# Altium footprint library MLACHA_B.PCBLIB: 37 footprints (part 2 of 3)
Each footprint in its own frame and in the unit in brackets; x right, y up, seen from the top. Pads: shape width x height; smd on the part's side, far side on the other; paste and mask are expansions set on the pad; w line width, h text height; cw(c..) or ccw(c..) is an arc to the next point about the centre after c.
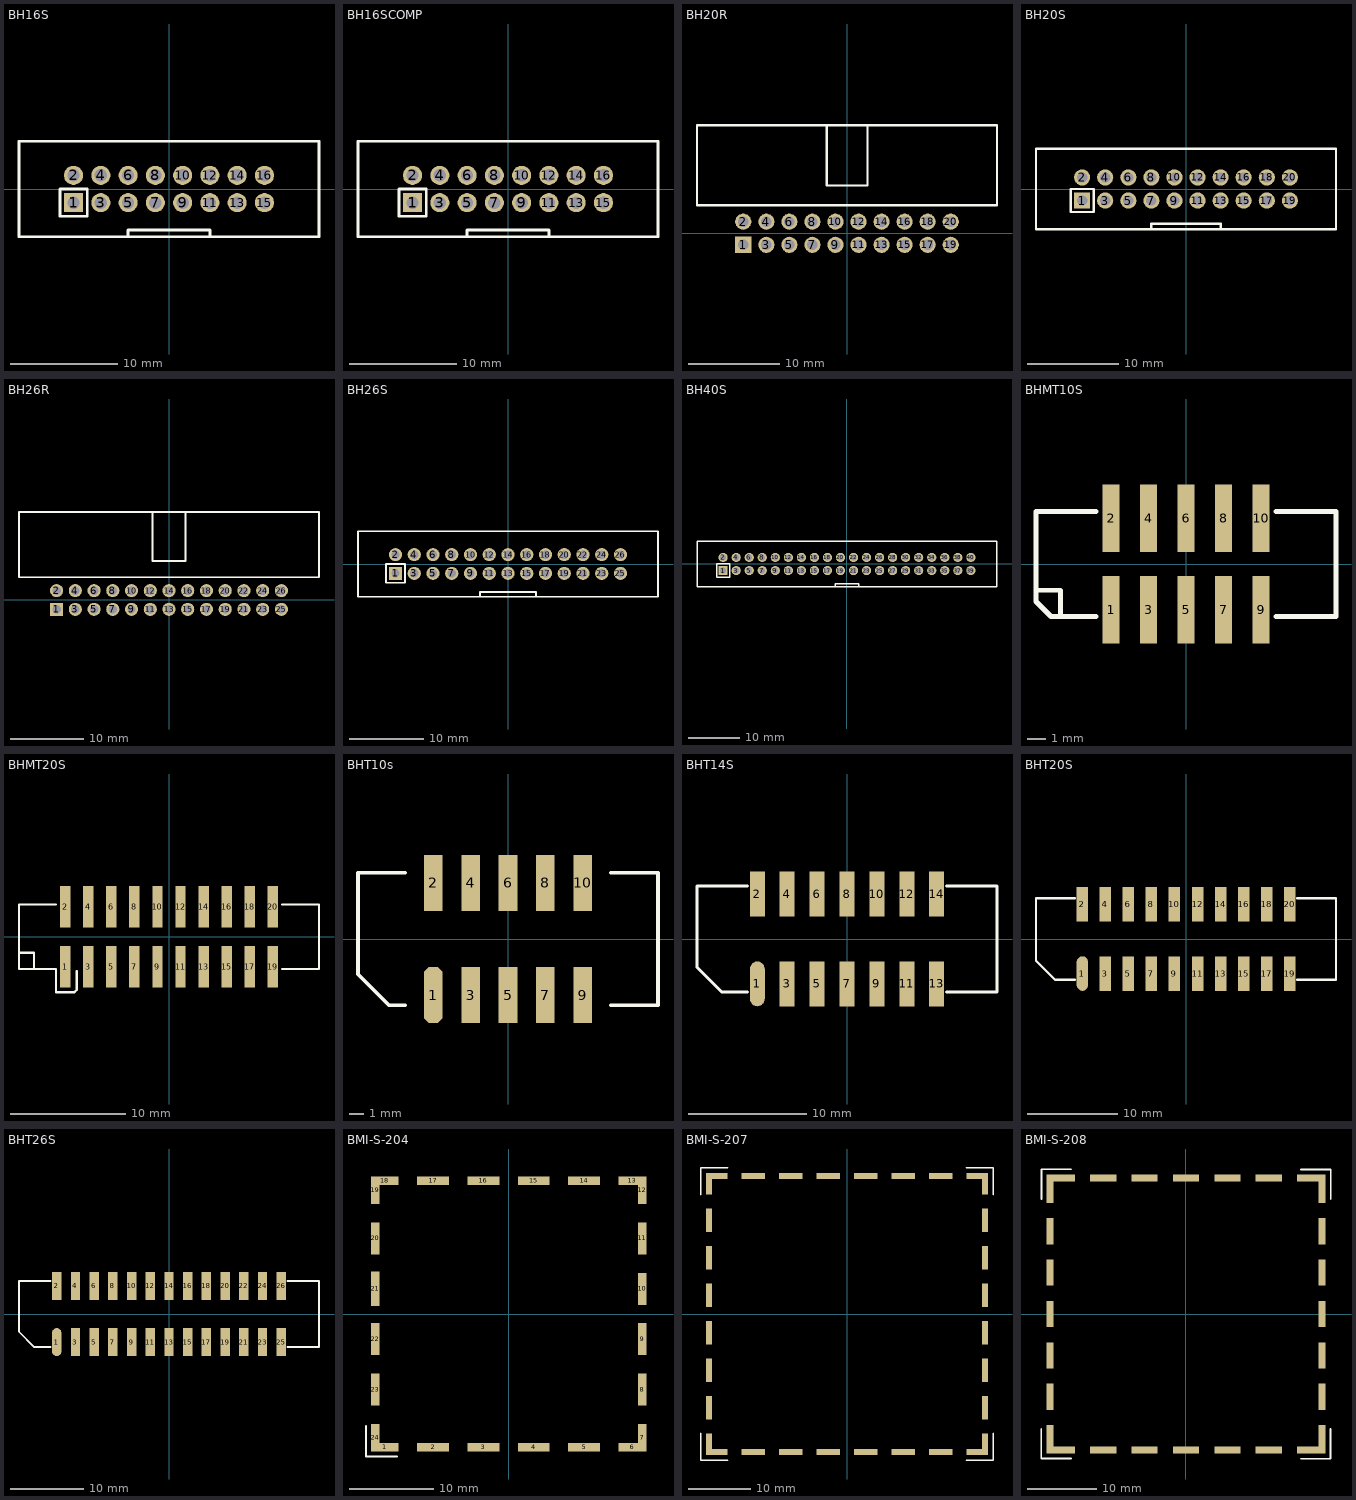
[diagram p1: the footprints below, top view; thin cyan lines are the x and y axes]

## BH16S [mil]
height 362.2
pads (16):
  rect 70x70 hole 45: 1(-350,-50)
  round 70 hole 45: 2(-350,50) 3(-250,-50) 4(-250,50) 5(-150,-50) 6(-150,50) 7(-50,-50) 8(-50,50) 9(50,-50) 10(50,50) 11(150,-50) 12(150,50) 13(250,-50) 14(250,50) 15(350,-50) 16(350,50)
TopOverlay:
  lines w10: -150,-175 -150,-150 150,-150 150,-175 ; -550,-175 -550,175 550,175 550,-175 -550,-175 ; -400,-100 -300,-100 -300,0 -400,0 -400,-100
3D body: height 39.37, standoff 0, extent -549.61,-177.17 551.18,177.17
3D body: height 358.27, standoff 0, extent -549.61,-177.17 551.18,177.17
3D body: height 98.43, standoff 0, extent -90.55,-173.23 90.55,-125.98
3D body: height 326.77, standoff -118.11, extent -361.81,-61.81 -338.19,-38.19
3D body: height 326.77, standoff -118.11, extent -261.81,-61.81 -238.19,-38.19
3D body: height 326.77, standoff -118.11, extent -161.81,-61.81 -138.19,-38.19
3D body: height 326.77, standoff -118.11, extent -361.81,38.19 -338.19,61.81
3D body: height 326.77, standoff -118.11, extent -261.81,38.19 -238.19,61.81
3D body: height 326.77, standoff -118.11, extent -161.81,38.19 -138.19,61.81
3D body: height 326.77, standoff -118.11, extent -61.81,38.19 -38.19,61.81
3D body: height 326.77, standoff -118.11, extent -61.81,-61.81 -38.19,-38.19
3D body: height 326.77, standoff -118.11, extent 38.19,-61.81 61.81,-38.19
3D body: height 326.77, standoff -118.11, extent 38.19,38.19 61.81,61.81
3D body: height 326.77, standoff -118.11, extent 138.19,-61.81 161.81,-38.19
3D body: height 326.77, standoff -118.11, extent 138.19,38.19 161.81,61.81
3D body: height 326.77, standoff -118.11, extent 238.19,-61.81 261.81,-38.19
3D body: height 326.77, standoff -118.11, extent 238.19,38.19 261.81,61.81
3D body: height 326.77, standoff -118.11, extent 338.19,-61.81 361.81,-38.19
3D body: height 326.77, standoff -118.11, extent 338.19,38.19 361.81,61.81

## BH16SCOMP [mil]
height 362.2
pads (16):
  rect 70x70 hole 45: 1(-350,-50)
  round 70 hole 45: 2(-350,50) 3(-250,-50) 4(-250,50) 5(-150,-50) 6(-150,50) 7(-50,-50) 8(-50,50) 9(50,-50) 10(50,50) 11(150,-50) 12(150,50) 13(250,-50) 14(250,50) 15(350,-50) 16(350,50)
TopOverlay:
  lines w10: -150,-175 -150,-150 150,-150 150,-175 ; -550,-175 550,-175 550,175 -550,175 -550,-175 ; -400,-100 -400,0 -300,0 -300,-100 -400,-100
3D body: height 551.18, standoff 118.11, extent -492.13,-118.11 492.13,118.11
3D body: height 326.77, standoff -118.11, extent 338.19,38.19 361.81,61.81
3D body: height 326.77, standoff -118.11, extent 338.19,-61.81 361.81,-38.19
3D body: height 326.77, standoff -118.11, extent 238.19,38.19 261.81,61.81
3D body: height 326.77, standoff -118.11, extent 238.19,-61.81 261.81,-38.19
3D body: height 326.77, standoff -118.11, extent 138.19,38.19 161.81,61.81
3D body: height 326.77, standoff -118.11, extent 138.19,-61.81 161.81,-38.19
3D body: height 326.77, standoff -118.11, extent 38.19,38.19 61.81,61.81
3D body: height 326.77, standoff -118.11, extent 38.19,-61.81 61.81,-38.19
3D body: height 326.77, standoff -118.11, extent -61.81,-61.81 -38.19,-38.19
3D body: height 326.77, standoff -118.11, extent -61.81,38.19 -38.19,61.81
3D body: height 326.77, standoff -118.11, extent -161.81,38.19 -138.19,61.81
3D body: height 326.77, standoff -118.11, extent -261.81,38.19 -238.19,61.81
3D body: height 326.77, standoff -118.11, extent -361.81,38.19 -338.19,61.81
3D body: height 326.77, standoff -118.11, extent -161.81,-61.81 -138.19,-38.19
3D body: height 326.77, standoff -118.11, extent -261.81,-61.81 -238.19,-38.19
3D body: height 326.77, standoff -118.11, extent -361.81,-61.81 -338.19,-38.19
3D body: height 98.43, standoff 0, extent -90.55,-173.23 90.55,-125.98
3D body: height 358.27, standoff 0, extent -549.61,-177.17 551.18,177.17
3D body: height 39.37, standoff 0, extent -549.61,-177.17 551.18,177.17

## BH20R [mil]
height 362.2
pads (20):
  rect 70x70 hole 45: 1(-450,-50)
  round 70 hole 45: 2(-450,50) 3(-350,-50) 4(-350,50) 5(-250,-50) 6(-250,50) 7(-150,-50) 8(-150,50) 9(-50,-50) 10(-50,50) 11(50,-50) 12(50,50) 13(150,-50) 14(150,50) 15(250,-50) 16(250,50) 17(350,-50) 18(350,50) 19(450,-50) 20(450,50)
TopOverlay:
  lines w10: -88.19,468.9 -88.19,207.48 88.98,207.48 88.98,468.9 ; -650.59,120.91 -650.59,468.9 650.59,468.9 650.59,120.91 -650.59,120.91
3D body: height 149.61, standoff 124.41, extent 438.19,38.19 461.81,433.86
3D body: height 149.61, standoff -78.74, extent 438.19,38.19 461.81,61.81
3D body: height 249.61, standoff 224.41, extent 438.19,-61.81 461.81,433.86
3D body: height 249.61, standoff -78.74, extent 438.19,-61.81 461.81,-38.19
3D body: height 149.61, standoff 124.41, extent 338.19,38.19 361.81,433.86
3D body: height 149.61, standoff -78.74, extent 338.19,38.19 361.81,61.81
3D body: height 249.61, standoff 224.41, extent 338.19,-61.81 361.81,433.86
3D body: height 249.61, standoff -78.74, extent 338.19,-61.81 361.81,-38.19
3D body: height 149.61, standoff 124.41, extent 238.19,38.19 261.81,433.86
3D body: height 149.61, standoff -78.74, extent 238.19,38.19 261.81,61.81
3D body: height 249.61, standoff 224.41, extent 238.19,-61.81 261.81,433.86
3D body: height 249.61, standoff -78.74, extent 238.19,-61.81 261.81,-38.19
3D body: height 249.61, standoff -78.74, extent 138.19,-61.81 161.81,-38.19
3D body: height 249.61, standoff 224.41, extent 138.19,-61.81 161.81,433.86
3D body: height 249.61, standoff -78.74, extent 38.19,-61.81 61.81,-38.19
3D body: height 249.61, standoff 224.41, extent 38.19,-61.81 61.81,433.86
3D body: height 249.61, standoff -78.74, extent -61.81,-61.81 -38.19,-38.19
3D body: height 249.61, standoff 224.41, extent -61.81,-61.81 -38.19,433.86
3D body: height 249.61, standoff -78.74, extent -161.81,-61.81 -138.19,-38.19
3D body: height 249.61, standoff 224.41, extent -161.81,-61.81 -138.19,433.86
3D body: height 249.61, standoff -78.74, extent -261.81,-61.81 -238.19,-38.19
3D body: height 249.61, standoff 224.41, extent -261.81,-61.81 -238.19,433.86
3D body: height 249.61, standoff -78.74, extent -361.81,-61.81 -338.19,-38.19
3D body: height 249.61, standoff 224.41, extent -361.81,-61.81 -338.19,433.86
3D body: height 249.61, standoff 224.41, extent -461.81,-61.81 -438.19,433.86
3D body: height 249.61, standoff -78.74, extent -461.81,-61.81 -438.19,-38.19
3D body: height 362.2, standoff 11.81, extent -650,120.91 650.59,179.96
3D body: height 362.2, standoff 11.81, extent 606.59,117.34 650.59,465.33
3D body: height 362.2, standoff 11.81, extent -650,120.91 -604.72,468.9
3D body: height 362.2, standoff 316.93, extent -650,120.91 650.59,468.9
3D body: height 57.09, standoff 11.81, extent -650,120.91 650.59,468.9
3D body: height 149.61, standoff 124.41, extent -161.81,38.19 -138.19,433.86
3D body: height 149.61, standoff -78.74, extent -161.81,38.19 -138.19,61.81
3D body: height 149.61, standoff -78.74, extent -61.81,38.19 -38.19,61.81
3D body: height 149.61, standoff 124.41, extent -61.81,38.19 -38.19,433.86
3D body: height 149.61, standoff -78.74, extent 38.19,38.19 61.81,61.81
3D body: height 149.61, standoff 124.41, extent 38.19,38.19 61.81,433.86
3D body: height 149.61, standoff -78.74, extent 138.19,38.19 161.81,61.81
3D body: height 149.61, standoff 124.41, extent 138.19,38.19 161.81,433.86
3D body: height 149.61, standoff -78.74, extent -261.81,38.19 -238.19,61.81
3D body: height 149.61, standoff 124.41, extent -261.81,38.19 -238.19,433.86
3D body: height 149.61, standoff -78.74, extent -361.81,38.19 -338.19,61.81
3D body: height 149.61, standoff 124.41, extent -361.81,38.19 -338.19,433.86
3D body: height 149.61, standoff -78.74, extent -461.81,38.19 -438.19,61.81
3D body: height 149.61, standoff 124.41, extent -461.81,38.19 -438.19,433.86

## BH20S [mil]
height 362.2
pads (20):
  rect 70x70 hole 45: 1(-450,-50)
  round 70 hole 45: 2(-450,50) 3(-350,-50) 4(-350,50) 5(-250,-50) 6(-250,50) 7(-150,-50) 8(-150,50) 9(-50,-50) 10(-50,50) 11(50,-50) 12(50,50) 13(150,-50) 14(150,50) 15(250,-50) 16(250,50) 17(350,-50) 18(350,50) 19(450,-50) 20(450,50)
TopOverlay:
  lines w10: -150,-175 -150,-150 150,-150 150,-175 ; -650,-175 -650,175 650,175 650,-175 -650,-175 ; -500,-100 -400,-100 -400,0 -500,0 -500,-100
3D body: height 326.77, standoff -118.11, extent 438.19,-61.81 461.81,-38.19
3D body: height 326.77, standoff -118.11, extent 438.19,38.19 461.81,61.81
3D body: height 326.77, standoff -118.11, extent 338.19,-61.81 361.81,-38.19
3D body: height 326.77, standoff -118.11, extent 338.19,38.19 361.81,61.81
3D body: height 326.77, standoff -118.11, extent 238.19,38.19 261.81,61.81
3D body: height 326.77, standoff -118.11, extent 238.19,-61.81 261.81,-38.19
3D body: height 326.77, standoff -118.11, extent 138.19,38.19 161.81,61.81
3D body: height 326.77, standoff -118.11, extent 138.19,-61.81 161.81,-38.19
3D body: height 326.77, standoff -118.11, extent 38.19,38.19 61.81,61.81
3D body: height 326.77, standoff -118.11, extent 38.19,-61.81 61.81,-38.19
3D body: height 326.77, standoff -118.11, extent -61.81,38.19 -38.19,61.81
3D body: height 326.77, standoff -118.11, extent -61.81,-61.81 -38.19,-38.19
3D body: height 326.77, standoff -118.11, extent -161.81,-61.81 -138.19,-38.19
3D body: height 326.77, standoff -118.11, extent -161.81,38.19 -138.19,61.81
3D body: height 326.77, standoff -118.11, extent -261.81,38.19 -238.19,61.81
3D body: height 326.77, standoff -118.11, extent -361.81,38.19 -338.19,61.81
3D body: height 326.77, standoff -118.11, extent -461.81,38.19 -438.19,61.81
3D body: height 326.77, standoff -118.11, extent -261.81,-61.81 -238.19,-38.19
3D body: height 326.77, standoff -118.11, extent -361.81,-61.81 -338.19,-38.19
3D body: height 326.77, standoff -118.11, extent -461.81,-61.81 -438.19,-38.19
3D body: height 98.43, standoff 0, extent -90.55,-177.17 90.55,-129.92
3D body: height 358.27, standoff 0, extent -649.61,-177.17 649.61,177.17
3D body: height 39.37, standoff 0, extent -649.61,-177.17 649.61,177.17

## BH26R [mil]
height 362.2
pads (26):
  rect 70x70 hole 45: 1(-600,-50)
  round 70 hole 45: 2(-600,50) 3(-500,-50) 4(-500,50) 5(-400,-50) 6(-400,50) 7(-300,-50) 8(-300,50) 9(-200,-50) 10(-200,50) 11(-100,-50) 12(-100,50) 13(0,-50) 14(0,50) 15(100,-50) 16(100,50) 17(200,-50) 18(200,50) 19(300,-50) 20(300,50) 21(400,-50) 22(400,50) 23(500,-50) 24(500,50) 25(600,-50) 26(600,50)
TopOverlay:
  lines w10: -88.58,468.9 -88.58,207.48 88.58,207.48 88.58,468.9 ; -800.59,120.91 800.59,120.91 800.59,468.9 -800.59,468.9 -800.59,120.91
3D body: height 149.61, standoff 124.41, extent -611.81,38.19 -588.19,433.86
3D body: height 149.61, standoff -78.74, extent -611.81,38.19 -588.19,61.81
3D body: height 149.61, standoff 124.41, extent -511.81,38.19 -488.19,433.86
3D body: height 149.61, standoff -78.74, extent -511.81,38.19 -488.19,61.81
3D body: height 149.61, standoff 124.41, extent -411.81,38.19 -388.19,433.86
3D body: height 149.61, standoff -78.74, extent -411.81,38.19 -388.19,61.81
3D body: height 149.61, standoff 124.41, extent -11.81,38.19 11.81,433.86
3D body: height 149.61, standoff -78.74, extent -11.81,38.19 11.81,61.81
3D body: height 149.61, standoff 124.41, extent -111.81,38.19 -88.19,433.86
3D body: height 149.61, standoff -78.74, extent -111.81,38.19 -88.19,61.81
3D body: height 149.61, standoff 124.41, extent -211.81,38.19 -188.19,433.86
3D body: height 149.61, standoff -78.74, extent -211.81,38.19 -188.19,61.81
3D body: height 149.61, standoff -78.74, extent -311.81,38.19 -288.19,61.81
3D body: height 149.61, standoff 124.41, extent -311.81,38.19 -288.19,433.86
3D body: height 57.09, standoff 11.81, extent -800,120.91 801.18,468.9
3D body: height 362.2, standoff 316.93, extent -800,120.91 800,468.9
3D body: height 362.2, standoff 11.81, extent -800,120.91 -754.72,468.9
3D body: height 362.2, standoff 11.81, extent 756.55,126 800.55,474
3D body: height 362.2, standoff 11.81, extent -800,120.91 800.55,179.96
3D body: height 249.61, standoff -78.74, extent -611.81,-61.81 -588.19,-38.19
3D body: height 249.61, standoff 224.41, extent -611.81,-61.81 -588.19,433.86
3D body: height 249.61, standoff 224.41, extent -511.81,-61.81 -488.19,433.86
3D body: height 249.61, standoff -78.74, extent -511.81,-61.81 -488.19,-38.19
3D body: height 249.61, standoff 224.41, extent -411.81,-61.81 -388.19,433.86
3D body: height 249.61, standoff -78.74, extent -411.81,-61.81 -388.19,-38.19
3D body: height 249.61, standoff 224.41, extent -311.81,-61.81 -288.19,433.86
3D body: height 249.61, standoff -78.74, extent -311.81,-61.81 -288.19,-38.19
3D body: height 249.61, standoff 224.41, extent -211.81,-61.81 -188.19,433.86
3D body: height 249.61, standoff -78.74, extent -211.81,-61.81 -188.19,-38.19
3D body: height 249.61, standoff 224.41, extent -111.81,-61.81 -88.19,433.86
3D body: height 249.61, standoff -78.74, extent -111.81,-61.81 -88.19,-38.19
3D body: height 249.61, standoff 224.41, extent -11.81,-61.81 11.81,433.86
3D body: height 249.61, standoff -78.74, extent -11.81,-61.81 11.81,-38.19
3D body: height 249.61, standoff -78.74, extent 88.19,-61.81 111.81,-38.19
3D body: height 249.61, standoff 224.41, extent 88.19,-61.81 111.81,433.86
3D body: height 149.61, standoff -78.74, extent 88.19,38.19 111.81,61.81
3D body: height 149.61, standoff 124.41, extent 88.19,38.19 111.81,433.86
3D body: height 249.61, standoff -78.74, extent 188.19,-61.81 211.81,-38.19
3D body: height 249.61, standoff 224.41, extent 188.19,-61.81 211.81,433.86
3D body: height 149.61, standoff -78.74, extent 188.19,38.19 211.81,61.81
3D body: height 149.61, standoff 124.41, extent 188.19,38.19 211.81,433.86
3D body: height 249.61, standoff -78.74, extent 288.19,-61.81 311.81,-38.19
3D body: height 249.61, standoff 224.41, extent 288.19,-61.81 311.81,433.86
3D body: height 149.61, standoff -78.74, extent 288.19,38.19 311.81,61.81
3D body: height 149.61, standoff 124.41, extent 288.19,38.19 311.81,433.86
3D body: height 249.61, standoff -78.74, extent 388.19,-61.81 411.81,-38.19
3D body: height 249.61, standoff 224.41, extent 388.19,-61.81 411.81,433.86
3D body: height 149.61, standoff -78.74, extent 388.19,38.19 411.81,61.81
3D body: height 149.61, standoff 124.41, extent 388.19,38.19 411.81,433.86
3D body: height 249.61, standoff -78.74, extent 488.19,-61.81 511.81,-38.19
3D body: height 249.61, standoff 224.41, extent 488.19,-61.81 511.81,433.86
3D body: height 149.61, standoff -78.74, extent 488.19,38.19 511.81,61.81
3D body: height 149.61, standoff 124.41, extent 488.19,38.19 511.81,433.86
3D body: height 249.61, standoff -78.74, extent 588.19,-61.81 611.81,-38.19
3D body: height 249.61, standoff 224.41, extent 588.19,-61.81 611.81,433.86
3D body: height 149.61, standoff -78.74, extent 588.19,38.19 611.81,61.81
3D body: height 149.61, standoff 124.41, extent 588.19,38.19 611.81,433.86

## BH26S [mil]
height 362.2
pads (26):
  rect 70x70 hole 45: 1(-600,-50)
  round 70 hole 45: 2(-600,50) 3(-500,-50) 4(-500,50) 5(-400,-50) 6(-400,50) 7(-300,-50) 8(-300,50) 9(-200,-50) 10(-200,50) 11(-100,-50) 12(-100,50) 13(0,-50) 14(0,50) 15(100,-50) 16(100,50) 17(200,-50) 18(200,50) 19(300,-50) 20(300,50) 21(400,-50) 22(400,50) 23(500,-50) 24(500,50) 25(600,-50) 26(600,50)
TopOverlay:
  lines w10: -150,-175 -150,-150 150,-150 150,-175 ; -800,-175 800,-175 800,175 -800,175 -800,-175 ; -650,-100 -650,0 -550,0 -550,-100 -650,-100
3D body: height 39.37, standoff 0, extent -799.61,-177.17 800,177.17
3D body: height 358.27, standoff 0, extent -799.61,-177.17 800,177.17
3D body: height 98.43, standoff 0, extent -240.55,-177.17 150,-129.92
3D body: height 326.77, standoff -118.11, extent -611.81,-61.81 -588.19,-38.19
3D body: height 326.77, standoff -118.11, extent -511.81,-61.81 -488.19,-38.19
3D body: height 326.77, standoff -118.11, extent -411.81,-61.81 -388.19,-38.19
3D body: height 326.77, standoff -118.11, extent -611.81,38.19 -588.19,61.81
3D body: height 326.77, standoff -118.11, extent -511.81,38.19 -488.19,61.81
3D body: height 326.77, standoff -118.11, extent -411.81,38.19 -388.19,61.81
3D body: height 326.77, standoff -118.11, extent -311.81,38.19 -288.19,61.81
3D body: height 326.77, standoff -118.11, extent -311.81,-61.81 -288.19,-38.19
3D body: height 326.77, standoff -118.11, extent -211.81,-61.81 -188.19,-38.19
3D body: height 326.77, standoff -118.11, extent -211.81,38.19 -188.19,61.81
3D body: height 326.77, standoff -118.11, extent -111.81,-61.81 -88.19,-38.19
3D body: height 326.77, standoff -118.11, extent -111.81,38.19 -88.19,61.81
3D body: height 326.77, standoff -118.11, extent -11.81,-61.81 11.81,-38.19
3D body: height 326.77, standoff -118.11, extent -11.81,38.19 11.81,61.81
3D body: height 326.77, standoff -118.11, extent 88.19,-61.81 111.81,-38.19
3D body: height 326.77, standoff -118.11, extent 88.19,38.19 111.81,61.81
3D body: height 326.77, standoff -118.11, extent 188.19,38.19 211.81,61.81
3D body: height 326.77, standoff -118.11, extent 188.19,-61.81 211.81,-38.19
3D body: height 326.77, standoff -118.11, extent 288.19,38.19 311.81,61.81
3D body: height 326.77, standoff -118.11, extent 288.19,-61.81 311.81,-38.19
3D body: height 326.77, standoff -118.11, extent 388.19,-61.81 411.81,-38.19
3D body: height 326.77, standoff -118.11, extent 388.19,38.19 411.81,61.81
3D body: height 326.77, standoff -118.11, extent 488.19,-61.81 511.81,-38.19
3D body: height 326.77, standoff -118.11, extent 488.19,38.19 511.81,61.81
3D body: height 326.77, standoff -118.11, extent 588.19,-61.81 611.81,-38.19
3D body: height 326.77, standoff -118.11, extent 588.19,38.19 611.81,61.81

## BH40S [mil]
height 362.2
pads (40):
  rect 70x70 hole 45: 1(-950,-50)
  round 70 hole 45: 2(-950,50) 3(-850,-50) 4(-850,50) 5(-750,-50) 6(-750,50) 7(-650,-50) 8(-650,50) 9(-550,-50) 10(-550,50) 11(-450,-50) 12(-450,50) 13(-350,-50) 14(-350,50) 15(-250,-50) 16(-250,50) 17(-150,-50) 18(-150,50) 19(-50,-50) 20(-50,50) 21(50,-50) 22(50,50) 23(150,-50) 24(150,50) 25(250,-50) 26(250,50) 27(350,-50) 28(350,50) 29(450,-50) 30(450,50) 31(550,-50) 32(550,50) 33(650,-50) 34(650,50) 35(750,-50) 36(750,50) 37(850,-50) 38(850,50) 39(950,-50) 40(950,50)
TopOverlay:
  lines w10: -88.58,-175 -88.58,-150 88.58,-150 88.58,-175 ; -1150.59,-175 -1150.59,175 1150.59,175 1150.59,-175 -1150.59,-175 ; -1000,-100 -900,-100 -900,0 -1000,0 -1000,-100
3D body: height 326.77, standoff -118.11, extent 938.19,-61.81 961.81,-38.19
3D body: height 326.77, standoff -118.11, extent 938.19,38.19 961.81,61.81
3D body: height 326.77, standoff -118.11, extent 838.19,-61.81 861.81,-38.19
3D body: height 326.77, standoff -118.11, extent 838.19,38.19 861.81,61.81
3D body: height 326.77, standoff -118.11, extent 738.19,-61.81 761.81,-38.19
3D body: height 326.77, standoff -118.11, extent 738.19,38.19 761.81,61.81
3D body: height 326.77, standoff -118.11, extent 638.19,-61.81 661.81,-38.19
3D body: height 326.77, standoff -118.11, extent 638.19,38.19 661.81,61.81
3D body: height 326.77, standoff -118.11, extent 538.19,-61.81 561.81,-38.19
3D body: height 326.77, standoff -118.11, extent 538.19,38.19 561.81,61.81
3D body: height 326.77, standoff -118.11, extent 438.19,-61.81 461.81,-38.19
3D body: height 326.77, standoff -118.11, extent 438.19,38.19 461.81,61.81
3D body: height 326.77, standoff -118.11, extent 338.19,-61.81 361.81,-38.19
3D body: height 326.77, standoff -118.11, extent 338.19,38.19 361.81,61.81
3D body: height 326.77, standoff -118.11, extent 238.19,38.19 261.81,61.81
3D body: height 326.77, standoff -118.11, extent 238.19,-61.81 261.81,-38.19
3D body: height 326.77, standoff -118.11, extent 138.19,38.19 161.81,61.81
3D body: height 326.77, standoff -118.11, extent 138.19,-61.81 161.81,-38.19
3D body: height 326.77, standoff -118.11, extent 38.19,38.19 61.81,61.81
3D body: height 326.77, standoff -118.11, extent 38.19,-61.81 61.81,-38.19
3D body: height 326.77, standoff -118.11, extent -61.81,-61.81 -38.19,-38.19
3D body: height 326.77, standoff -118.11, extent -61.81,38.19 -38.19,61.81
3D body: height 326.77, standoff -118.11, extent -161.81,-61.81 -138.19,-38.19
3D body: height 326.77, standoff -118.11, extent -161.81,38.19 -138.19,61.81
3D body: height 326.77, standoff -118.11, extent -261.81,38.19 -238.19,61.81
3D body: height 326.77, standoff -118.11, extent -261.81,-61.81 -238.19,-38.19
3D body: height 326.77, standoff -118.11, extent -361.81,38.19 -338.19,61.81
3D body: height 326.77, standoff -118.11, extent -361.81,-61.81 -338.19,-38.19
3D body: height 326.77, standoff -118.11, extent -461.81,38.19 -438.19,61.81
3D body: height 326.77, standoff -118.11, extent -461.81,-61.81 -438.19,-38.19
3D body: height 326.77, standoff -118.11, extent -561.81,38.19 -538.19,61.81
3D body: height 326.77, standoff -118.11, extent -561.81,-61.81 -538.19,-38.19
3D body: height 326.77, standoff -118.11, extent -661.81,-61.81 -638.19,-38.19
3D body: height 326.77, standoff -118.11, extent -661.81,38.19 -638.19,61.81
3D body: height 326.77, standoff -118.11, extent -761.81,38.19 -738.19,61.81
3D body: height 326.77, standoff -118.11, extent -861.81,38.19 -838.19,61.81
3D body: height 326.77, standoff -118.11, extent -961.81,38.19 -938.19,61.81
3D body: height 326.77, standoff -118.11, extent -761.81,-61.81 -738.19,-38.19
3D body: height 326.77, standoff -118.11, extent -861.81,-61.81 -838.19,-38.19
3D body: height 326.77, standoff -118.11, extent -961.81,-61.81 -938.19,-38.19
3D body: height 98.43, standoff 0, extent -590.55,-177.17 -200,-129.92
3D body: height 358.27, standoff 0, extent -1149.61,-177.17 1149.61,177.17
3D body: height 39.37, standoff 0, extent -1149.61,-177.17 1151.57,177.17

## BHMT10S [mm]
pads (10):
  rect 0.9x3.615 smd: 1(-4,-2.44) 2(-4,2.44) 3(-2,-2.44) 4(-2,2.44) 5(0,-2.44) 6(0,2.44) 7(2,-2.44) 8(2,2.44) 9(4,-2.44) 10(4,2.44)
TopOverlay:
  lines w0.254: -8,-1.4 -6.7,-1.4 -6.7,-2.8 ; -4.8,-2.8 -7.2,-2.8 -8,-2 -8,2.8 -4.8,2.8 ; 4.8,-2.8 8,-2.8 8,2.8 4.8,2.8

## BHMT20S [mm]
pads (20):
  rect 0.9x3.615 smd: 1(-9,-2.6) 2(-9,2.6) 3(-7,-2.6) 4(-7,2.6) 5(-5,-2.6) 6(-5,2.6) 7(-3,-2.6) 8(-3,2.6) 9(-1,-2.6) 10(-1,2.6) 11(1,-2.6) 12(1,2.6) 13(3,-2.6) 14(3,2.6) 15(5,-2.6) 16(5,2.6) 17(7,-2.6) 18(7,2.6) 19(9,-2.6) 20(9,2.6)
TopOverlay:
  lines w0.203: -13,-1.4 -11.7,-1.4 -11.7,-2.8 ; -9.8,2.8 -13,2.8 -13,-2.8 -9.8,-2.8 -9.8,-4.8 -8.2,-4.8 -8,-4.6 -8,-3 ; 9.8,-2.8 13,-2.8 13,2.8 9.8,2.8

## BHT10s [mil]
pads (10):
  oct 50x150 smd: 1(-200,-150)
  rect 50x150 smd: 2(-200,150) 3(-100,-150) 4(-100,150) 5(0,-150) 6(0,150) 7(100,-150) 8(100,150) 9(200,-150) 10(200,150)
TopOverlay:
  lines w10: -275.59,-177.17 -318.9,-177.17 -401.57,-94.49 -401.57,177.17 -275.59,177.17 ; 275.59,-177.17 401.57,-177.17 401.57,177.17 275.59,177.17

## BHT14S [mil]
pads (14):
  oval 50x150 smd: 1(-300,-150)
  rect 50x150 smd: 2(-300,150) 3(-200,-150) 4(-200,150) 5(-100,-150) 6(-100,150) 7(0,-150) 8(0,150) 9(100,-150) 10(100,150) 11(200,-150) 12(200,150) 13(300,-150) 14(300,150)
TopOverlay:
  lines w10: -332.28,-177.17 -418.9,-177.17 -501.57,-94.49 -501.57,177.17 -332.28,177.17 ; 332.28,-177.17 501.57,-177.17 501.57,177.17 332.28,177.17

## BHT20S [mil]
pads (20):
  oval 50x150 smd: 1(-450,-150)
  rect 50x150 smd: 2(-450,150) 3(-350,-150) 4(-350,150) 5(-250,-150) 6(-250,150) 7(-150,-150) 8(-150,150) 9(-50,-150) 10(-50,150) 11(50,-150) 12(50,150) 13(150,-150) 14(150,150) 15(250,-150) 16(250,150) 17(350,-150) 18(350,150) 19(450,-150) 20(450,150)
TopOverlay:
  lines w10: -482.28,-177.17 -568.9,-177.17 -651.57,-94.49 -651.57,177.17 -482.28,177.17 ; 482.28,-177.17 651.57,-177.17 651.57,177.17 482.28,177.17

## BHT26S [mil]
pads (26):
  oval 50x150 smd: 1(-600,-150)
  rect 50x150 smd: 2(-600,150) 3(-500,-150) 4(-500,150) 5(-400,-150) 6(-400,150) 7(-300,-150) 8(-300,150) 9(-200,-150) 10(-200,150) 11(-100,-150) 12(-100,150) 13(0,-150) 14(0,150) 15(100,-150) 16(100,150) 17(200,-150) 18(200,150) 19(300,-150) 20(300,150) 21(400,-150) 22(400,150) 23(500,-150) 24(500,150) 25(600,-150) 26(600,150)
TopOverlay:
  lines w10: -632.28,-177.17 -718.9,-177.17 -801.57,-94.49 -801.57,177.17 -632.28,177.17 ; 632.28,-177.17 801.57,-177.17 801.57,177.17 632.28,177.17

## BMI-S-204 [mm]
pads (24):
  rect 3.3x1 smd: 1(-14.75,-15.9) 6(14.75,-15.9) 13(14.75,15.9) 18(-14.75,15.9)
  rect 3.8x1 smd: 2(-9,-15.9) 3(-3,-15.9) 4(3,-15.9) 5(9,-15.9) 14(9,15.9) 15(3,15.9) 16(-3,15.9) 17(-9,15.9)
  rect 1x3.3 smd: 7(15.9,-14.75) 12(15.9,14.75) 19(-15.9,14.75) 24(-15.9,-14.75)
  rect 1x3.8 smd: 8(15.9,-9) 9(15.9,-3) 10(15.9,3) 11(15.9,9) 20(-15.9,9) 22(-15.9,-3) 23(-15.9,-9)
  rect 1x4.1 smd: 21(-15.9,3)
TopOverlay:
  lines w0.25: -17,-13.335 -17,-17 -13.335,-17
3D body: height 6, standoff 5.8, extent -16,-16.4 16.1,15.9
3D body: height 6, standoff 0, extent -16,-16 16.1,15.9

## BMI-S-207 [mm]
pads (32):
  rect 3.49x1 smd: 1(-20.84,-22.085) 8(20.84,-22.085) 17(20.84,22.085) 24(-20.84,22.085)
  rect 3.8x1 smd: 2(-14.995,-22.085) 3(-8.995,-22.085) 4(-2.995,-22.085) 5(3.005,-22.085) 6(9.005,-22.085) 7(15.005,-22.085) 18(15.005,22.085) 19(9.005,22.085) 20(3.005,22.085) 21(-2.995,22.085) 22(-8.995,22.085) 23(-14.995,22.085)
  rect 1x3.49 smd: 9(22.085,-20.84) 16(22.085,20.84) 25(-22.085,20.84) 32(-22.085,-20.84)
  rect 1x3.8 smd: 10(22.085,-14.995) 11(22.085,-8.995) 12(22.085,-2.995) 13(22.085,3.005) 14(22.085,9.005) 15(22.085,15.005) 26(-22.085,15.005) 27(-22.085,9.005) 28(-22.085,3.005) 29(-22.085,-2.995) 30(-22.085,-8.995) 31(-22.085,-14.995)
TopOverlay:
  lines w0.25: -23.4,-19.085 -23.4,-23.4 -19.085,-23.4 ; -23.4,19.085 -23.4,23.4 -19.085,23.4 ; 19.085,-23.4 23.4,-23.4 23.4,-19.085 ; 19.085,23.4 23.4,23.4 23.4,19.085
3D body: height 9.5, standoff 9.3, extent -22.2,-22 22,22.1
3D body: height 9.5, standoff 0, extent -22.3,-22.1 22.1,22.2

## BMI-S-208 [mm]
pads (28):
  rect 4.1x1 smd: 1(-18.15,-19.7) 7(18.15,-19.7) 15(18.15,19.7) 21(-18.15,19.7)
  rect 3.8x1 smd: 2(-12,-19.7) 3(-6,-19.7) 4(0,-19.7) 5(6,-19.7) 6(12,-19.7) 16(12,19.7) 17(6,19.7) 18(0,19.7) 19(-6,19.7) 20(-12,19.7)
  rect 1x4.1 smd: 8(19.7,-18.15) 14(19.7,18.15) 22(-19.7,18.15) 28(-19.7,-18.15)
  rect 1x3.8 smd: 9(19.7,-12) 10(19.7,-6) 11(19.7,0) 12(19.7,6) 13(19.7,12) 23(-19.7,12) 24(-19.7,6) 25(-19.7,0) 26(-19.7,-6) 27(-19.7,-12)
TopOverlay:
  lines w0.25: -21,-16.635 -21,-20.95 -16.685,-20.95 ; -20.95,16.685 -20.95,21 -16.635,21 ; 16.635,-21 20.95,-21 20.95,-16.685 ; 16.685,20.95 21,20.95 21,16.635
3D body: height 7, standoff 6.8, extent -19.7,-19.7 19.8,19.7
3D body: height 7, standoff 0, extent -19.8,-19.8 19.8,19.8